# EAGLE library part MICROCHIP_PIC18F45K80-I-ML (library ML)
MCHP-PIC18F45_46K80-QFN-44
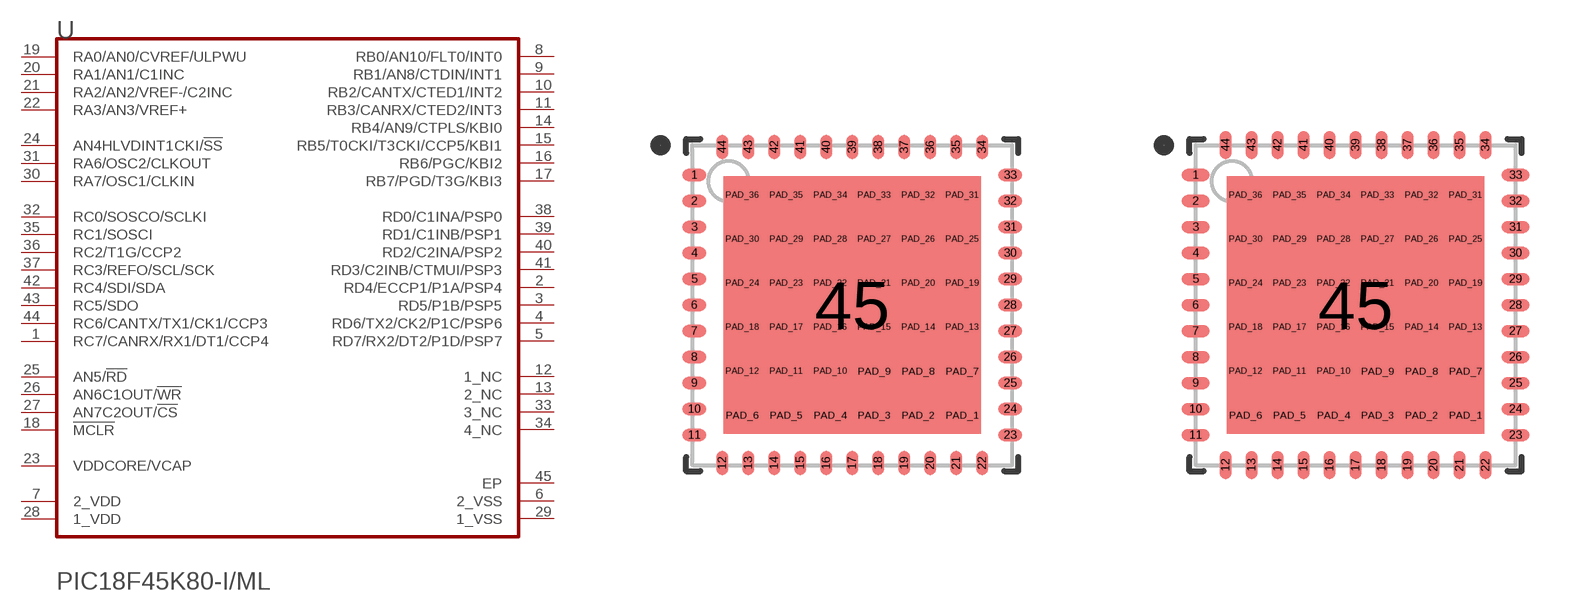
[diagram p0: symbol with the pads of MICROCHIP_PIC18F45K80-I-ML_0; footprints MICROCHIP_PIC18F45K80-I-ML_0, MICROCHIP_PIC18F45K80-I-ML_1]

Designator prefix U

## MICROCHIP_PIC18F45K80-I-MLMICROCHIP_PIC18F45K80-I-ML_0_0 (CIIVA_IDS: 1156993; COMPONENT_LINK_2_DESCRIPTION: Package Specification; COMPONENT_LINK_2_URL: http://www.microchip.com/stellent/groups/techpub_sg/documents/packagingspec/en012702.pdf; COMPONENT_LINK_3_DESCRIPTION: URL Link1; COMPONENT_LINK_3_URL: Product URL:http://www.microchip.com/datasheet/PIC18F45K80; DATASHEET: http://ww1.microchip.com/downloads/en/DeviceDoc/39977f.pdf; DATASHEET_VERSION: Rev. F; DIGITAL_COMMUNICATION: 2 -A/E/USART, 1 -MSSP(SPI/I2C), 0 -SSP(SPI/I2C); EEPROM_DATA_MEMORY_BYTES: 1024; FOOTPRINT_VARIANT_NAME_0: Level C; FOOTPRINT_VARIANT_NAME_1: Level B; FOOTPRINT_VARIANT_NAME_2: Level A; IMPORTED: yes; IMPORTED_FROM: vault; IMPORT_TS: 1521864020; INTERNAL_OSCILLATOR: 16 MHz, 31 kHz; IO_PINS: 35; MAX_CPU_SPEED_MHZ: 64; MEMORY_TYPE: Flash; MF: Microchip; MOUNTING_TECHNOLOGY: Surface Mount; MPN: PIC18F45K80-I/ML; OF_AD_CHANNELS: 11; OPERATION_VOLTAGE_RANGE: 1.8V - 5.5V; PACKAGE: QFN-ML44; PACKAGE_DESCRIPTION: 44-Lead Plastic Quad Flat, 8 x 8 mm Body, 0.65 mm Pitch; PACKAGE_VERSION: C04-103C, 12/2012; PACKING: TUBE; PIN_0_0_14_INSIDE_EDGE: clock; PIN_0_0_15_INSIDE_EDGE: clock; PIN_0_0_23_INSIDE_EDGE: clock; PIN_0_0_29_INSIDE_EDGE: clock; PIN_0_0_31_INSIDE_EDGE: clock; PIN_0_0_36_INSIDE_EDGE: clock; PIN_0_0_3_INSIDE_EDGE: clock; PIN_0_0_43_INSIDE_EDGE: clock; PREFIX: U; PROGRAM_MEMORY_KBYTES: 32; PROGRAM_MEMORY_KWORDS: 16; RAM: 3648; RELEASE_DATE: 1370053096; ROHS: Yes; TIMERS: 2 - 8-bit, 3 - 16-bit; VAULT_GUID: CE6854A9-9697-4090-B66A-B438BDAAA53A; VAULT_REVISION: 9EEA89B8-936B-415F-BACD-3F90B382344D)  [MICROCHIP_PIC18F45K80-I-ML_0]
1  RC7/CANRX/RX1/DT1/CCP4
2  RD4/ECCP1/P1A/PSP4
3  RD5/P1B/PSP5
4  RD6/TX2/CK2/P1C/PSP6
5  RD7/RX2/DT2/P1D/PSP7
6  2_VSS  pwr
7  2_VDD  pwr
8  RB0/AN10/FLT0/INT0
9  RB1/AN8/CTDIN/INT1
10  RB2/CANTX/CTED1/INT2
11  RB3/CANRX/CTED2/INT3
12  1_NC  pas
13  2_NC  pas
14  RB4/AN9/CTPLS/KBI0
15  RB5/T0CKI/T3CKI/CCP5/KBI1
16  RB6/PGC/KBI2
17  RB7/PGD/T3G/KBI3
18  !MCLR!  in
19  RA0/AN0/CVREF/ULPWU
20  RA1/AN1/C1INC
21  RA2/AN2/VREF-/C2INC
22  RA3/AN3/VREF+
23  VDDCORE/VCAP  pwr
24  AN4HLVDINT1CKI/!SS!
25  AN5/!RD!
26  AN6C1OUT/!WR!
27  AN7C2OUT/!CS!
28  1_VDD  pwr
29  1_VSS  pwr
30  RA7/OSC1/CLKIN
31  RA6/OSC2/CLKOUT
32  RC0/SOSCO/SCLKI
33  3_NC  pas
34  4_NC  pas
35  RC1/SOSCI
36  RC2/T1G/CCP2
37  RC3/REFO/SCL/SCK
38  RD0/C1INA/PSP0
39  RD1/C1INB/PSP1
40  RD2/C2INA/PSP2
41  RD3/C2INB/CTMUI/PSP3
42  RC4/SDI/SDA
43  RC5/SDO
44  RC6/CANTX/TX1/CK1/CCP3
45  EP  pwr

## MICROCHIP_PIC18F45K80-I-MLMICROCHIP_PIC18F45K80-I-ML_0_1 (CIIVA_IDS: 1156993; COMPONENT_LINK_2_DESCRIPTION: Package Specification; COMPONENT_LINK_2_URL: http://www.microchip.com/stellent/groups/techpub_sg/documents/packagingspec/en012702.pdf; COMPONENT_LINK_3_DESCRIPTION: URL Link1; COMPONENT_LINK_3_URL: Product URL:http://www.microchip.com/datasheet/PIC18F45K80; DATASHEET: http://ww1.microchip.com/downloads/en/DeviceDoc/39977f.pdf; DATASHEET_VERSION: Rev. F; DIGITAL_COMMUNICATION: 2 -A/E/USART, 1 -MSSP(SPI/I2C), 0 -SSP(SPI/I2C); EEPROM_DATA_MEMORY_BYTES: 1024; FOOTPRINT_VARIANT_NAME_0: Level C; FOOTPRINT_VARIANT_NAME_1: Level B; FOOTPRINT_VARIANT_NAME_2: Level A; IMPORTED: yes; IMPORTED_FROM: vault; IMPORT_TS: 1521864020; INTERNAL_OSCILLATOR: 16 MHz, 31 kHz; IO_PINS: 35; MAX_CPU_SPEED_MHZ: 64; MEMORY_TYPE: Flash; MF: Microchip; MOUNTING_TECHNOLOGY: Surface Mount; MPN: PIC18F45K80-I/ML; OF_AD_CHANNELS: 11; OPERATION_VOLTAGE_RANGE: 1.8V - 5.5V; PACKAGE: QFN-ML44; PACKAGE_DESCRIPTION: 44-Lead Plastic Quad Flat, 8 x 8 mm Body, 0.65 mm Pitch; PACKAGE_VERSION: C04-103C, 12/2012; PACKING: TUBE; PIN_0_0_14_INSIDE_EDGE: clock; PIN_0_0_15_INSIDE_EDGE: clock; PIN_0_0_23_INSIDE_EDGE: clock; PIN_0_0_29_INSIDE_EDGE: clock; PIN_0_0_31_INSIDE_EDGE: clock; PIN_0_0_36_INSIDE_EDGE: clock; PIN_0_0_3_INSIDE_EDGE: clock; PIN_0_0_43_INSIDE_EDGE: clock; PREFIX: U; PROGRAM_MEMORY_KBYTES: 32; PROGRAM_MEMORY_KWORDS: 16; RAM: 3648; RELEASE_DATE: 1370053096; ROHS: Yes; TIMERS: 2 - 8-bit, 3 - 16-bit; VAULT_GUID: CE6854A9-9697-4090-B66A-B438BDAAA53A; VAULT_REVISION: 9EEA89B8-936B-415F-BACD-3F90B382344D)  [MICROCHIP_PIC18F45K80-I-ML_1]
Pads as for MICROCHIP_PIC18F45K80-I-ML_0

## MICROCHIP_PIC18F45K80-I-MLMICROCHIP_PIC18F45K80-I-ML_0_2 (CIIVA_IDS: 1156993; COMPONENT_LINK_2_DESCRIPTION: Package Specification; COMPONENT_LINK_2_URL: http://www.microchip.com/stellent/groups/techpub_sg/documents/packagingspec/en012702.pdf; COMPONENT_LINK_3_DESCRIPTION: URL Link1; COMPONENT_LINK_3_URL: Product URL:http://www.microchip.com/datasheet/PIC18F45K80; DATASHEET: http://ww1.microchip.com/downloads/en/DeviceDoc/39977f.pdf; DATASHEET_VERSION: Rev. F; DIGITAL_COMMUNICATION: 2 -A/E/USART, 1 -MSSP(SPI/I2C), 0 -SSP(SPI/I2C); EEPROM_DATA_MEMORY_BYTES: 1024; FOOTPRINT_VARIANT_NAME_0: Level C; FOOTPRINT_VARIANT_NAME_1: Level B; FOOTPRINT_VARIANT_NAME_2: Level A; IMPORTED: yes; IMPORTED_FROM: vault; IMPORT_TS: 1521864020; INTERNAL_OSCILLATOR: 16 MHz, 31 kHz; IO_PINS: 35; MAX_CPU_SPEED_MHZ: 64; MEMORY_TYPE: Flash; MF: Microchip; MOUNTING_TECHNOLOGY: Surface Mount; MPN: PIC18F45K80-I/ML; OF_AD_CHANNELS: 11; OPERATION_VOLTAGE_RANGE: 1.8V - 5.5V; PACKAGE: QFN-ML44; PACKAGE_DESCRIPTION: 44-Lead Plastic Quad Flat, 8 x 8 mm Body, 0.65 mm Pitch; PACKAGE_VERSION: C04-103C, 12/2012; PACKING: TUBE; PIN_0_0_14_INSIDE_EDGE: clock; PIN_0_0_15_INSIDE_EDGE: clock; PIN_0_0_23_INSIDE_EDGE: clock; PIN_0_0_29_INSIDE_EDGE: clock; PIN_0_0_31_INSIDE_EDGE: clock; PIN_0_0_36_INSIDE_EDGE: clock; PIN_0_0_3_INSIDE_EDGE: clock; PIN_0_0_43_INSIDE_EDGE: clock; PREFIX: U; PROGRAM_MEMORY_KBYTES: 32; PROGRAM_MEMORY_KWORDS: 16; RAM: 3648; RELEASE_DATE: 1370053096; ROHS: Yes; TIMERS: 2 - 8-bit, 3 - 16-bit; VAULT_GUID: CE6854A9-9697-4090-B66A-B438BDAAA53A; VAULT_REVISION: 9EEA89B8-936B-415F-BACD-3F90B382344D)  [MICROCHIP_PIC18F45K80-I-ML_2]
Pads as for MICROCHIP_PIC18F45K80-I-ML_0

## Footprint MICROCHIP_PIC18F45K80-I-ML_0 (pad centres in mm)
MCHP-PIC18F45_46K80-QFN-44
smd 0.6 x 0.3: 1 -3.95,3.25; 2 -3.95,2.6; 3 -3.95,1.95; 4 -3.95,1.3; 5 -3.95,0.65; 6 -3.95,0; 7 -3.95,-0.65; 8 -3.95,-1.3; 9 -3.95,-1.95; 10 -3.95,-2.6; 11 -3.95,-3.25; 23 3.95,-3.25; 24 3.95,-2.6; 25 3.95,-1.95; 26 3.95,-1.3; 27 3.95,-0.65; 28 3.95,0; 29 3.95,0.65; 30 3.95,1.3; 31 3.95,1.95; 32 3.95,2.6; 33 3.95,3.25
smd 0.3 x 0.6: 12 -3.25,-3.95; 13 -2.6,-3.95; 14 -1.95,-3.95; 15 -1.3,-3.95; 16 -0.65,-3.95; 17 0,-3.95; 18 0.65,-3.95; 19 1.3,-3.95; 20 1.95,-3.95; 21 2.6,-3.95; 22 3.25,-3.95; 34 3.25,3.95; 35 2.6,3.95; 36 1.95,3.95; 37 1.3,3.95; 38 0.65,3.95; 39 0,3.95; 40 -0.65,3.95; 41 -1.3,3.95; 42 -1.95,3.95; 43 -2.6,3.95; 44 -3.25,3.95
smd 6.43 x 6.43: 45 0,0
drill 0.2 pad 0.5: PAD_1 2.75,-2.75; PAD_2 1.65,-2.75; PAD_3 0.55,-2.75; PAD_4 -0.55,-2.75; PAD_5 -1.65,-2.75; PAD_6 -2.75,-2.75; PAD_7 2.75,-1.65; PAD_8 1.65,-1.65; PAD_9 0.55,-1.65; PAD_10 -0.55,-1.65; PAD_11 -1.65,-1.65; PAD_12 -2.75,-1.65; PAD_13 2.75,-0.55; PAD_14 1.65,-0.55; PAD_15 0.55,-0.55; PAD_16 -0.55,-0.55; PAD_17 -1.65,-0.55; PAD_18 -2.75,-0.55; PAD_19 2.75,0.55; PAD_20 1.65,0.55; PAD_21 0.55,0.55; PAD_22 -0.55,0.55; PAD_23 -1.65,0.55; PAD_24 -2.75,0.55; PAD_25 2.75,1.65; PAD_26 1.65,1.65; PAD_27 0.55,1.65; PAD_28 -0.55,1.65; PAD_29 -1.65,1.65; PAD_30 -2.75,1.65; PAD_31 2.75,2.75; PAD_32 1.65,2.75; PAD_33 0.55,2.75; PAD_34 -0.55,2.75; PAD_35 -1.65,2.75; PAD_36 -2.75,2.75

## Footprint MICROCHIP_PIC18F45K80-I-ML_1 (pad centres in mm)
MCHP-PIC18F45_46K80-QFN-44
smd 0.7 x 0.3: 1 -4,3.25; 2 -4,2.6; 3 -4,1.95; 4 -4,1.3; 5 -4,0.65; 6 -4,0; 7 -4,-0.65; 8 -4,-1.3; 9 -4,-1.95; 10 -4,-2.6; 11 -4,-3.25; 23 4,-3.25; 24 4,-2.6; 25 4,-1.95; 26 4,-1.3; 27 4,-0.65; 28 4,0; 29 4,0.65; 30 4,1.3; 31 4,1.95; 32 4,2.6; 33 4,3.25
smd 0.3 x 0.7: 12 -3.25,-4; 13 -2.6,-4; 14 -1.95,-4; 15 -1.3,-4; 16 -0.65,-4; 17 0,-4; 18 0.65,-4; 19 1.3,-4; 20 1.95,-4; 21 2.6,-4; 22 3.25,-4; 34 3.25,4; 35 2.6,4; 36 1.95,4; 37 1.3,4; 38 0.65,4; 39 0,4; 40 -0.65,4; 41 -1.3,4; 42 -1.95,4; 43 -2.6,4; 44 -3.25,4
smd 6.43 x 6.43: 45 0,0
drill 0.2 pad 0.5: PAD_1 2.75,-2.75; PAD_2 1.65,-2.75; PAD_3 0.55,-2.75; PAD_4 -0.55,-2.75; PAD_5 -1.65,-2.75; PAD_6 -2.75,-2.75; PAD_7 2.75,-1.65; PAD_8 1.65,-1.65; PAD_9 0.55,-1.65; PAD_10 -0.55,-1.65; PAD_11 -1.65,-1.65; PAD_12 -2.75,-1.65; PAD_13 2.75,-0.55; PAD_14 1.65,-0.55; PAD_15 0.55,-0.55; PAD_16 -0.55,-0.55; PAD_17 -1.65,-0.55; PAD_18 -2.75,-0.55; PAD_19 2.75,0.55; PAD_20 1.65,0.55; PAD_21 0.55,0.55; PAD_22 -0.55,0.55; PAD_23 -1.65,0.55; PAD_24 -2.75,0.55; PAD_25 2.75,1.65; PAD_26 1.65,1.65; PAD_27 0.55,1.65; PAD_28 -0.55,1.65; PAD_29 -1.65,1.65; PAD_30 -2.75,1.65; PAD_31 2.75,2.75; PAD_32 1.65,2.75; PAD_33 0.55,2.75; PAD_34 -0.55,2.75; PAD_35 -1.65,2.75; PAD_36 -2.75,2.75

## Footprint MICROCHIP_PIC18F45K80-I-ML_2 (pad centres in mm)
MCHP-PIC18F45_46K80-QFN-44
smd 0.8 x 0.3: 1 -4.05,3.25; 2 -4.05,2.6; 3 -4.05,1.95; 4 -4.05,1.3; 5 -4.05,0.65; 6 -4.05,0; 7 -4.05,-0.65; 8 -4.05,-1.3; 9 -4.05,-1.95; 10 -4.05,-2.6; 11 -4.05,-3.25; 23 4.05,-3.25; 24 4.05,-2.6; 25 4.05,-1.95; 26 4.05,-1.3; 27 4.05,-0.65; 28 4.05,0; 29 4.05,0.65; 30 4.05,1.3; 31 4.05,1.95; 32 4.05,2.6; 33 4.05,3.25
smd 0.3 x 0.8: 12 -3.25,-4.05; 13 -2.6,-4.05; 14 -1.95,-4.05; 15 -1.3,-4.05; 16 -0.65,-4.05; 17 0,-4.05; 18 0.65,-4.05; 19 1.3,-4.05; 20 1.95,-4.05; 21 2.6,-4.05; 22 3.25,-4.05; 34 3.25,4.05; 35 2.6,4.05; 36 1.95,4.05; 37 1.3,4.05; 38 0.65,4.05; 39 0,4.05; 40 -0.65,4.05; 41 -1.3,4.05; 42 -1.95,4.05; 43 -2.6,4.05; 44 -3.25,4.05
smd 6.43 x 6.43: 45 0,0
drill 0.5: PAD_8 1.65,-1.65; PAD_9 0.55,-1.65; PAD_10 -0.55,-1.65; PAD_11 -1.65,-1.65; PAD_14 1.65,-0.55; PAD_15 0.55,-0.55; PAD_16 -0.55,-0.55; PAD_17 -1.65,-0.55; PAD_20 1.65,0.55; PAD_21 0.55,0.55; PAD_22 -0.55,0.55; PAD_23 -1.65,0.55; PAD_26 1.65,1.65; PAD_27 0.55,1.65; PAD_28 -0.55,1.65; PAD_29 -1.65,1.65